# Altium footprint library MaleHeaderSMD_100mil.PcbLib: 3 footprints
Each footprint in its own frame and in the unit in brackets; x right, y up, seen from the top. Pads: shape width x height; smd on the part's side, far side on the other; paste and mask are expansions set on the pad; w line width, h text height; cw(c..) or ccw(c..) is an arc to the next point about the centre after c.
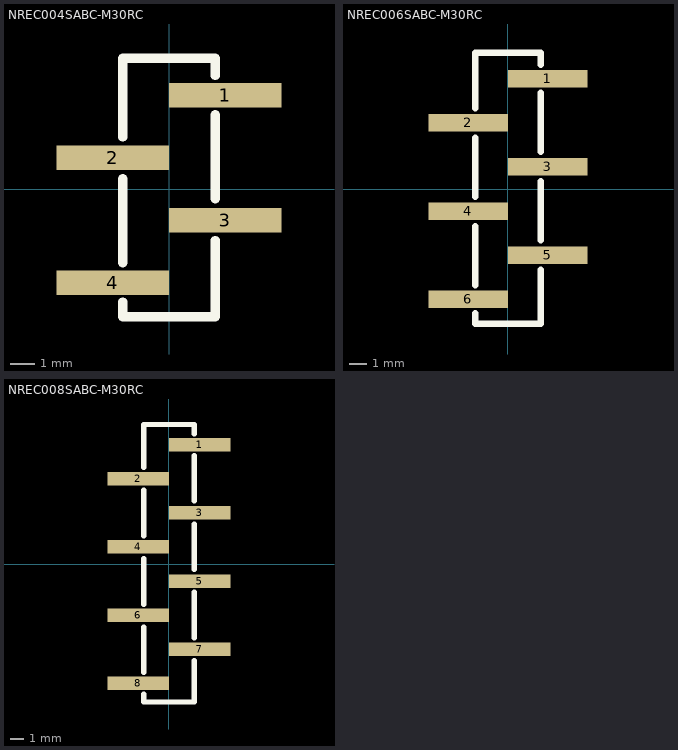
[diagram p0: the footprints below, top view; thin cyan lines are the x and y axes]

## NREC004SABC-M30RC [mm]
pads (4):
  rect 4.565x1 smd: 1(2.282,3.81) 2(-2.283,1.27) 3(2.282,-1.27) 4(-2.283,-3.81)
Top Overlay:
  lines w0.381: -1.883,-4.59 -1.883,-5.19 1.882,-5.19 1.882,-2.09 ; -1.883,-2.99 -1.883,0.41 ; -1.883,2.11 -1.883,5.31 1.882,5.31 1.882,4.61 ; 1.882,-0.39 1.882,3.01
3D body "TSM-104-01-T-SV.stp": height 9.66, standoff 0.01, extent -2.642,-5.08 2.642,5.08

## NREC006SABC-M30RC [mm]
pads (6):
  rect 4.565x1 smd: 1(2.283,6.35) 2(-2.282,3.81) 3(2.283,1.27) 4(-2.282,-1.27) 5(2.283,-3.81) 6(-2.282,-6.35)
Top Overlay:
  lines w0.381: -1.882,-7.15 -1.882,-7.75 1.883,-7.75 1.883,-4.65 ; -1.882,-5.55 -1.882,-2.15 ; -1.882,-0.45 -1.882,2.95 ; -1.882,4.65 -1.882,7.85 1.883,7.85 1.883,7.15 ; 1.883,-2.95 1.883,0.45 ; 1.883,2.15 1.883,5.55
3D body "TSM-106-01-T-SV.stp": height 9.66, standoff 0.01, extent -2.642,-7.62 2.642,7.62

## NREC008SABC-M30RC [mm]
pads (8):
  rect 4.565x1 smd: 1(2.283,8.89) 2(-2.282,6.35) 3(2.283,3.81) 4(-2.282,1.27) 5(2.283,-1.27) 6(-2.282,-3.81) 7(2.282,-6.35) 8(-2.282,-8.89)
Top Overlay:
  lines w0.381: -1.882,-9.69 -1.882,-10.29 1.883,-10.29 1.883,-7.19 ; -1.882,-8.09 -1.882,-4.69 ; -1.882,-3.01 -1.882,0.39 ; -1.882,2.09 -1.882,5.49 ; -1.882,7.19 -1.882,10.39 1.883,10.39 1.883,9.69 ; 1.883,-5.49 1.883,-2.09 ; 1.883,-0.41 1.883,2.99 ; 1.883,4.69 1.883,8.09
3D body "TSM-108-01-T-SV.stp": height 9.66, standoff 0.01, extent -2.642,-10.16 2.642,10.16